# Altium footprint library FootPrintLib_5.PCBLIB: 254 footprints (part 13 of 16)
Each footprint in its own frame and in the unit in brackets; x right, y up, seen from the top. Pads: shape width x height; smd on the part's side, far side on the other; paste and mask are expansions set on the pad; w line width, h text height; cw(c..) or ccw(c..) is an arc to the next point about the centre after c.
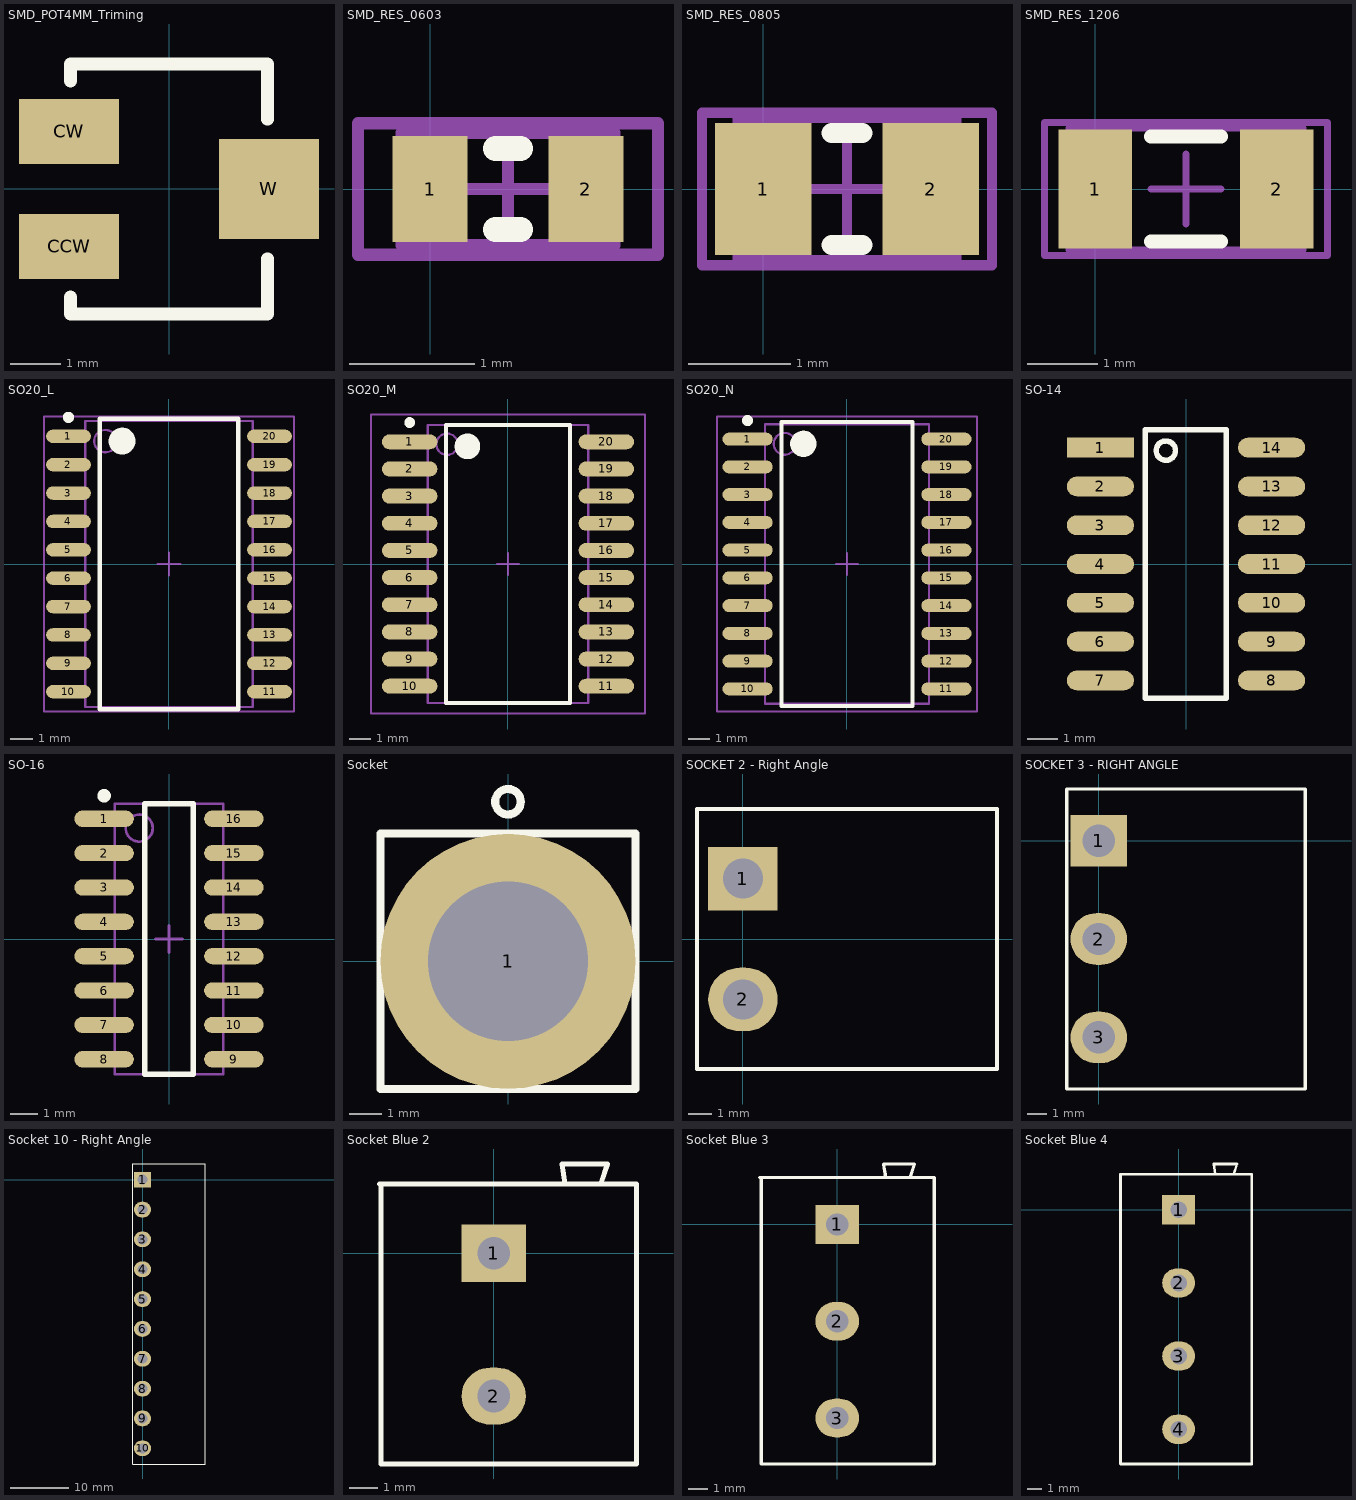
[diagram p12: the footprints below, top view; thin cyan lines are the x and y axes]

## SMD_POT4MM_Triming [mm] "Square Trimming Potentiometer"
pads (3):
  rect 2x1.3 smd: CCW(-2,-1.15) CW(-2,1.15)
  rect 2x2 smd: W(2,0)
Top Overlay:
  lines w0.254: -1.97,-2.159 -1.97,-2.5 1.97,-2.5 1.97,-1.397 ; -1.97,2.159 -1.97,2.5 1.97,2.5 1.97,1.397
3D body "SW3dPS-Pot 3214.STEP": height 5.4, standoff 0, extent -1.97,-2.4 1.97,2.4

## SMD_RES_0603 [mm] "Chip Resistor, 2-Leads, Body 1.6x0.8mm, IPC High Density _ (0.063W)"
height 0.6
pads (2):
  rect 0.6x0.85 smd: 1(0,0) 2(1.244,0)
Top Overlay:
  lines w0.2: 0.522,-0.325 0.722,-0.325 ; 0.522,0.325 0.722,0.325
Mechanical 13:
  lines w0.1: -0.228,-0.45 -0.228,0.45 1.472,0.45 1.472,-0.45 -0.228,-0.45
Mechanical 15:
  lines w0.1: 0.172,0 1.072,0 ; 0.622,-0.45 0.622,0.45 ; -0.578,-0.525 -0.578,0.525 1.822,0.525 1.822,-0.525 -0.578,-0.525
3D body "0603.STEP": height 0.45, standoff 0, extent -0.14,-0.381 1.384,0.381

## SMD_RES_0805 [mm] "Chip Resistor, 2-Leads, Body 2.0x1.3mm, IPC High Density _ (0.100 W)"
height 0.65
pads (2):
  rect 0.95x1.3 smd: 1(0,0) 2(1.65,0)
Top Overlay:
  lines w0.2: 0.675,-0.55 0.975,-0.55 ; 0.675,0.55 0.975,0.55
Mechanical 13:
  lines w0.1: -0.25,-0.7 -0.25,0.7 1.9,0.7 1.9,-0.7 -0.25,-0.7
Mechanical 15:
  lines w0.1: 0.325,0 1.325,0 ; 0.825,-0.5 0.825,0.5 ; -0.6,-0.75 -0.6,0.75 2.25,0.75 2.25,-0.75 -0.6,-0.75
3D body "0805.STEP": height 0.6, standoff 0, extent -0.191,-0.635 1.841,0.635

## SMD_RES_1206 [mm] "Chip Resistor, 2-Leads, Body 3.2x1.6mm, IPC High Density _ (0.125 W)"
height 0.75
pads (2):
  rect 1.05x1.7 smd: 1(0,0) 2(2.596,0)
Top Overlay:
  lines w0.2: 0.798,-0.75 1.798,-0.75 ; 0.798,0.75 1.798,0.75
Mechanical 13:
  lines w0.1: -0.377,-0.875 2.973,-0.875 2.973,0.875 -0.377,0.875 -0.377,-0.875
Mechanical 15:
  lines w0.1: 0.798,0 1.798,0 ; 1.298,-0.5 1.298,0.5 ; -0.727,-0.95 3.323,-0.95 3.323,0.95 -0.727,0.95 -0.727,-0.95
3D body "1206.STEP": height 0.6, standoff 0, extent -0.226,-0.762 2.822,0.762

## SO20_L [mm] "SOIC, 20-Leads, Body 12.8x7.5mm, Pitch 1.27mm, IPC High Density"
height 2.65
pads (20):
  oval 2x0.6 smd: 1(-4.5,5.715) 2(-4.5,4.445) 3(-4.5,3.175) 4(-4.5,1.905) 5(-4.5,0.635) 6(-4.5,-0.635) 7(-4.5,-1.905) 8(-4.5,-3.175) 9(-4.5,-4.445) 10(-4.5,-5.715) 11(4.5,-5.715) 12(4.5,-4.445) 13(4.5,-3.175) 14(4.5,-1.905) 15(4.5,-0.635) 16(4.5,0.635) 17(4.5,1.905) 18(4.5,3.175) 19(4.5,4.445) 20(4.5,5.715)
Top Overlay:
  circle w0.25: c-4.5,6.565 r0.125
  circle w0.6: c-2.1,5.5 r0.3
  lines w0.2: -3.1,-6.5 -3.1,6.5 3.1,6.5 3.1,-6.5 -3.1,-6.5
Mechanical 13:
  circle w0.1: c-2.85,5.5 r0.5
  lines w0.1: -3.75,-6.4 -3.75,6.4 3.75,6.4 3.75,-6.4 -3.75,-6.4
Mechanical 15:
  lines w0.1: -0.5,0 0.5,0 ; 0,-0.5 0,0.5 ; -5.6,-6.6 -5.6,6.6 5.6,6.6 5.6,-6.6 -5.6,-6.6
3D body "SO20_WIDE.step": height 1.7, standoff 0, extent -5.343,-6.223 5.3,6.223

## SO20_M [mm] "SOIC, 20-Leads, Body 12.8x7.5mm, Pitch 1.27mm, IPC Low Density"
height 2.65
pads (20):
  oval 2.6x0.7 smd: 1(-4.6,5.715) 2(-4.6,4.445) 3(-4.6,3.175) 4(-4.6,1.905) 5(-4.6,0.635) 6(-4.6,-0.635) 7(-4.6,-1.905) 8(-4.6,-3.175) 9(-4.6,-4.445) 10(-4.6,-5.715) 11(4.6,-5.715) 12(4.6,-4.445) 13(4.6,-3.175) 14(4.6,-1.905) 15(4.6,-0.635) 16(4.6,0.635) 17(4.6,1.905) 18(4.6,3.175) 19(4.6,4.445) 20(4.6,5.715)
Top Overlay:
  circle w0.6: c-1.9,5.5 r0.3
  circle w0.25: c-4.6,6.615 r0.125
  lines w0.2: -2.9,-6.5 2.9,-6.5 2.9,6.5 -2.9,6.5 -2.9,-6.5
Mechanical 13:
  circle w0.1: c-2.85,5.6 r0.5
  lines w0.1: -3.75,-6.5 3.75,-6.5 3.75,6.5 -3.75,6.5 -3.75,-6.5
Mechanical 15:
  lines w0.1: -0.5,0 0.5,0 ; 0,-0.5 0,0.5 ; -6.4,-7 6.4,-7 6.4,7 -6.4,7 -6.4,-7
3D body "SO20_WIDE.step": height 1.7, standoff 0, extent -5.321,-6.223 5.321,6.223

## SO20_N [mm] "SOIC, 20-Leads, Body 12.8x7.5mm, Pitch 1.27mm, IPC Medium Density"
height 2.65
pads (20):
  oval 2.3x0.6 smd: 1(-4.55,5.715) 2(-4.55,4.445) 3(-4.55,3.175) 4(-4.55,1.905) 5(-4.55,0.635) 6(-4.55,-0.635) 7(-4.55,-1.905) 8(-4.55,-3.175) 9(-4.55,-4.445) 10(-4.55,-5.715) 11(4.55,-5.715) 12(4.55,-4.445) 13(4.55,-3.175) 14(4.55,-1.905) 15(4.55,-0.635) 16(4.55,0.635) 17(4.55,1.905) 18(4.55,3.175) 19(4.55,4.445) 20(4.55,5.715)
Top Overlay:
  circle w0.25: c-4.55,6.565 r0.125
  circle w0.6: c-2,5.5 r0.3
  lines w0.2: -3,-6.5 -3,6.5 3,6.5 3,-6.5 -3,-6.5
Mechanical 13:
  circle w0.1: c-2.85,5.5 r0.5
  lines w0.1: -3.75,-6.4 -3.75,6.4 3.75,6.4 3.75,-6.4 -3.75,-6.4
Mechanical 15:
  lines w0.1: -0.5,0 0.5,0 ; 0,-0.5 0,0.5 ; -5.95,-6.75 -5.95,6.75 5.95,6.75 5.95,-6.75 -5.95,-6.75
3D body "SO20_WIDE.step": height 1.7, standoff 0, extent -5.321,-6.223 5.321,6.223

## SO-14 [mm] "SOIC, 14-Leads, Body 9.9x3.9mm, Pitch 1.27mm"
height 1.75
pads (14):
  rect 2.2x0.65 smd: 1(-2.8,3.81)
  oval 2.2x0.65 smd: 2(-2.8,2.54) 3(-2.8,1.27) 4(-2.8,0) 5(-2.8,-1.27) 6(-2.8,-2.54) 7(-2.8,-3.81) 8(2.8,-3.81) 9(2.8,-2.54) 10(2.8,-1.27) 11(2.8,0) 12(2.8,1.27) 13(2.8,2.54) 14(2.8,3.81)
Top Overlay:
  circle w0.178: c-0.659,3.711 r0.316
  lines w0.178: -1.339,-4.4 1.313,-4.4 1.313,4.4 -1.339,4.4 -1.339,-4.4
3D body "SO14.step": height 1.76, standoff 0, extent -3.196,-4.4 3.002,4.338

## SO-16 [mm] "SOIC, 16-Leads, Body 9.9x3.9mm, Pitch 1.27mm, IPC Medium Density"
height 1.75
pads (16):
  oval 2.2x0.6 smd: 1(-2.4,4.445) 2(-2.4,3.175) 3(-2.4,1.905) 4(-2.4,0.635) 5(-2.4,-0.635) 6(-2.4,-1.905) 7(-2.4,-3.175) 8(-2.4,-4.445) 9(2.4,-4.445) 10(2.4,-3.175) 11(2.4,-1.905) 12(2.4,-0.635) 13(2.4,0.635) 14(2.4,1.905) 15(2.4,3.175) 16(2.4,4.445)
Top Overlay:
  circle w0.25: c-2.4,5.295 r0.125
  lines w0.2: -0.9,-5 0.9,-5 0.9,5 -0.9,5 -0.9,-5
Mechanical 13:
  circle w0.1: c-1.1,4.1 r0.5
  lines w0.1: -2,-5 2,-5 2,5 -2,5 -2,-5
Mechanical 15:
  lines w0.1: -0.5,0 0.5,0 ; 0,-0.5 0,0.5
3D body "SOIC16.STEP": height 1.73, standoff -0.03, extent -3.099,-5.08 3.099,5.08

## Socket [mm]
pads (1):
  round 8 hole 5: 1(0,0)
Top Overlay:
  circle w0.254: c0,5 r0.4
  lines w0.254: -4,-4 4,-4 4,4 -4,4 -4,-4
3D body "New Socket-Short.STEP": height 26.7, standoff -4.75, extent -7.075,-7.075 7.075,7.075

## SOCKET 2 - Right Angle [mil]
pads (2):
  rect 115x105 hole 66: 1(0,100)
  oval 115x105 hole 66: 2(0,-100)
Top Overlay:
  lines w7: -76,-215 -76,215 420,215 420,-215 -76,-215
3D body "Socket Green_V2009.STEP": height 310, standoff -121.87, extent -60,-199.39 410,207.5

## SOCKET 3 - RIGHT ANGLE [mil]
pads (3):
  rect 115x105 hole 66: 1(0,0)
  oval 115x105 hole 66: 2(0,-200) 3(0,-400)
Top Overlay:
  lines w7: -65,-505 420,-505 420,105 -65,105 -65,-505
3D body "Socket Green_3Pin.STEP": height 310, standoff -161.24, extent -55,-505 415,105

## Socket 10 - Right Angle [mil]
pads (10):
  rect 115x105 hole 66: 1(0,0)
  oval 115x105 hole 66: 2(0,-200) 3(0,-400) 4(0,-600) 5(0,-800) 6(0,-1000) 7(0,-1200) 8(0,-1400) 9(0,-1600) 10(0,-1800)
Top Overlay:
  lines w7: -65,-1905 420,-1905 420,105 -65,105 -65,-1905
3D body "Socket Green_10Pin.STEP": height 310, standoff -161.24, extent -55,-1905 415,105

## Socket Blue 2 [mil]
pads (2):
  rect 90x80 hole 46: 1(0,0)
  oval 90x80 hole 46: 2(0,-200)
Top Overlay:
  lines w7: 100,97 95.33,125 159.33,125 150,97 ; -160,97 200,97 200,-295 -158,-295 -158,97 ; -160,97 -158,97 ; -160,97 -159,97 -158,97
3D body "Socket Blue_2Pin.STEP": height 493, standoff -263.18, extent -157,-295.46 200,127.46

## Socket Blue 3 [mil]
pads (3):
  rect 90x80 hole 46: 1(0,0)
  oval 90x80 hole 46: 2(0,-200) 3(0,-400)
Top Overlay:
  lines w7: 100,97 95.33,125 159.33,125 150,97 ; -160,97 200,97 200,-495.05 -157.44,-495.05 -157.44,97 -160,97
3D body "Socket Blue_3Pin.STEP": height 503, standoff -253.18, extent -157.44,-495.05 199.56,127.87

## Socket Blue 4 [mil]
pads (4):
  rect 90x80 hole 46: 1(0,0)
  oval 90x80 hole 46: 2(0,-200) 3(0,-400) 4(0,-600)
Top Overlay:
  lines w7: 100,97 95.33,125 159.33,125 150,97 ; -160,97 200,97 200,-694.91 -159,-694.91 -159,97 ; -160,97 -158,97 -159,97 ; -160,97 -159,97
3D body "Socket Blue_4Pin.STEP": height 493, standoff -263.18, extent -159,-694.91 198,128